# EAGLE library part MA14-1DJ (library joakim)
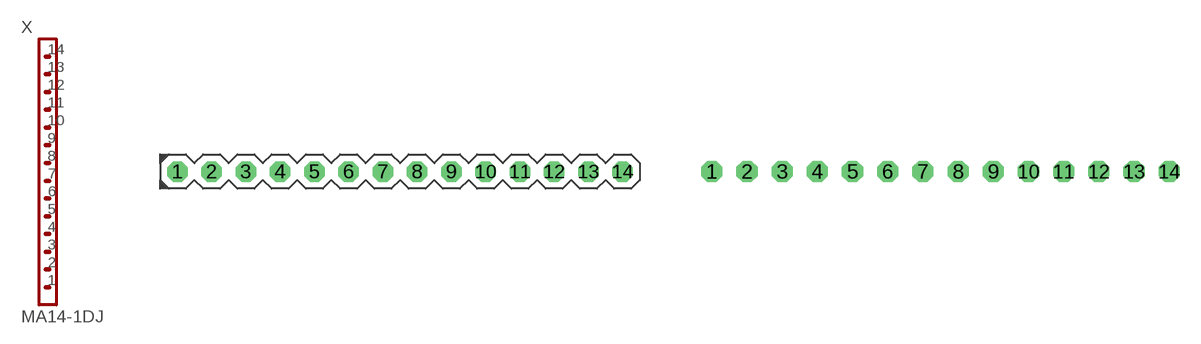
[diagram p57: symbol with the pads of MA14-1J; footprints MA14-1J, MA14N-1J]

Designator prefix X

## MA14-1DJ  [MA14-1J]
1  1  pas
2  2  pas
3  3  pas
4  4  pas
5  5  pas
6  6  pas
7  7  pas
8  8  pas
9  9  pas
10  10  pas
11  11  pas
12  12  pas
13  13  pas
14  14  pas

## MA14-1DJN  [MA14N-1J]
Pads as for MA14-1J

## Footprint MA14-1J (pad centres in mm)
PIN HEADER
drill 1.016 octagon: 1 -17.78,0; 2 -15.24,0; 3 -12.7,0; 4 -10.16,0; 5 -7.62,0; 6 -5.08,0; 7 -2.54,0; 8 0,0; 9 2.54,0; 10 5.08,0; 11 7.62,0; 12 10.16,0; 13 12.7,0; 14 15.24,0

## Footprint MA14N-1J (pad centres in mm)
PIN HEADER
drill 1.016 octagon: 1 -17.78,0; 2 -15.24,0; 3 -12.7,0; 4 -10.16,0; 5 -7.62,0; 6 -5.08,0; 7 -2.54,0; 8 0,0; 9 2.54,0; 10 5.08,0; 11 7.62,0; 12 10.16,0; 13 12.7,0; 14 15.24,0